# EAGLE library part LIGHT_TSL2591 (library TSL2591)
TSL2591 Light-To-Digital Sensor
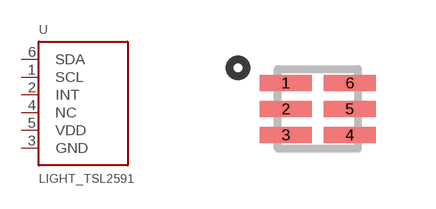
[diagram p1: symbol with the pads of DFN6_TAOS; footprint DFN6_TAOS]

Designator prefix U

## LIGHT_TSL2591  [DFN6_TAOS]
1  SCL
2  INT  out
3  GND  pwr
4  NC  nc
5  VDD  pwr
6  SDA

## Footprint DFN6_TAOS (pad centres in mm)
smd 1.3 x 0.4: 1 -0.8,0.65; 2 -0.8,0; 3 -0.8,-0.65; 4 0.8,-0.65; 5 0.8,0; 6 0.8,0.65